# Altium footprint library MemoryProtectionDevices.PcbLib: 2 footprints
Each footprint in its own frame and in the unit in brackets; x right, y up, seen from the top. Pads: shape width x height; smd on the part's side, far side on the other; paste and mask are expansions set on the pad; w line width, h text height; cw(c..) or ccw(c..) is an arc to the next point about the centre after c.
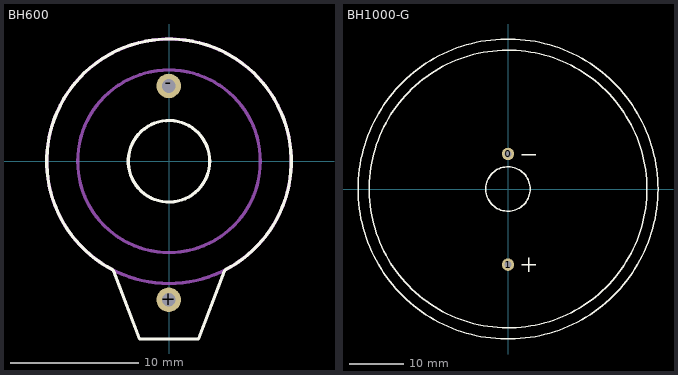
[diagram p0: the footprints below, top view; thin cyan lines are the x and y axes]

## BH600 [mil] "16mm Battery Holder"
height 300
pads (2):
  round 75 hole 42: +(-1,-425) -(-1,231)
Top Overlay:
  circle w10: c0,0 r125
  lines w10: -171.62,-333.43 cw(c0,0) 171.62,-333.43 ; -170,-335 -90,-545 90,-545 170,-335
Mechanical 1:
  circle w10: c0,0 r375
  circle w10: c0,0 r280
3D body: height 330, standoff 313, extent -50,-500 50,300
3D body: height 300, standoff 0, extent -170,-545 170,-335
3D body: height 200, standoff 0, extent -375.43,-375.43 375.43,375.43
3D body: height 315, standoff 0, extent -280.42,-280.42 280.42,280.42
3D body: height 330, standoff 0, extent -50,-500 50,-360

## BH1000-G [mil] "HOLDER BATTERY FOR 24MM CELL"
height 329.92
pads (2):
  round 90 hole 50: 0(0,255) 1(0,-550)
Top Overlay:
  circle w10: c0,0 r161.25
  circle w10: c0,0 r1008.81
  circle w10: c0,0 r1090
  lines w10: 100,-550 200,-550 ; 100,250 200,250 ; 150,-600 150,-500